# EAGLE library part DALC208SC6 (library SamacSys_Parts)
TVS Diode Array DALC208SC6 Octal, SOT-23 6-Pin Source: Datasheet <https://componentsearchengine.com/Datasheets/1/DALC208SC6.pdf>
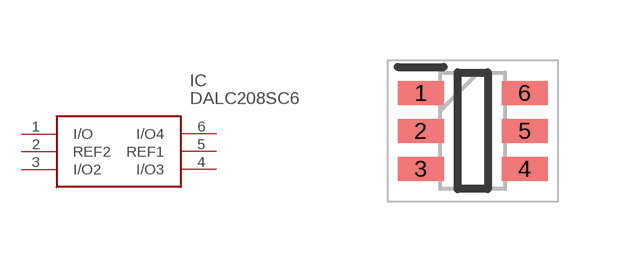
[diagram p5: symbol with the pads of SOT95P280X145-6N; footprint SOT95P280X145-6N]

Designator prefix IC

## DALC208SC6 (DESCRIPTION: TVS Diode Array DALC208SC6 Octal, SOT-23 6-Pin; HEIGHT: 1.45mm; MANUFACTURER_NAME: STMicroelectronics; MANUFACTURER_PART_NUMBER: DALC208SC6; MOUSER_PART_NUMBER: 511-DALC208SC6; MOUSER_PRICE-STOCK: https://www.mouser.com/Search/Refine.aspx?Keyword=511-DALC208SC6)  [SOT95P280X145-6N]
1  I/O
2  REF2  in
3  I/O2
4  I/O3
5  REF1  in
6  I/O4

## Footprint SOT95P280X145-6N (pad centres in mm)
SOT23-6L
smd 1.15 x 0.6: 1 -1.3,0.95; 2 -1.3,0; 3 -1.3,-0.95; 4 1.3,-0.95; 5 1.3,0; 6 1.3,0.95